# Altium integrated library Transistor.IntLib: 3457 symbols (part 28 of 78)
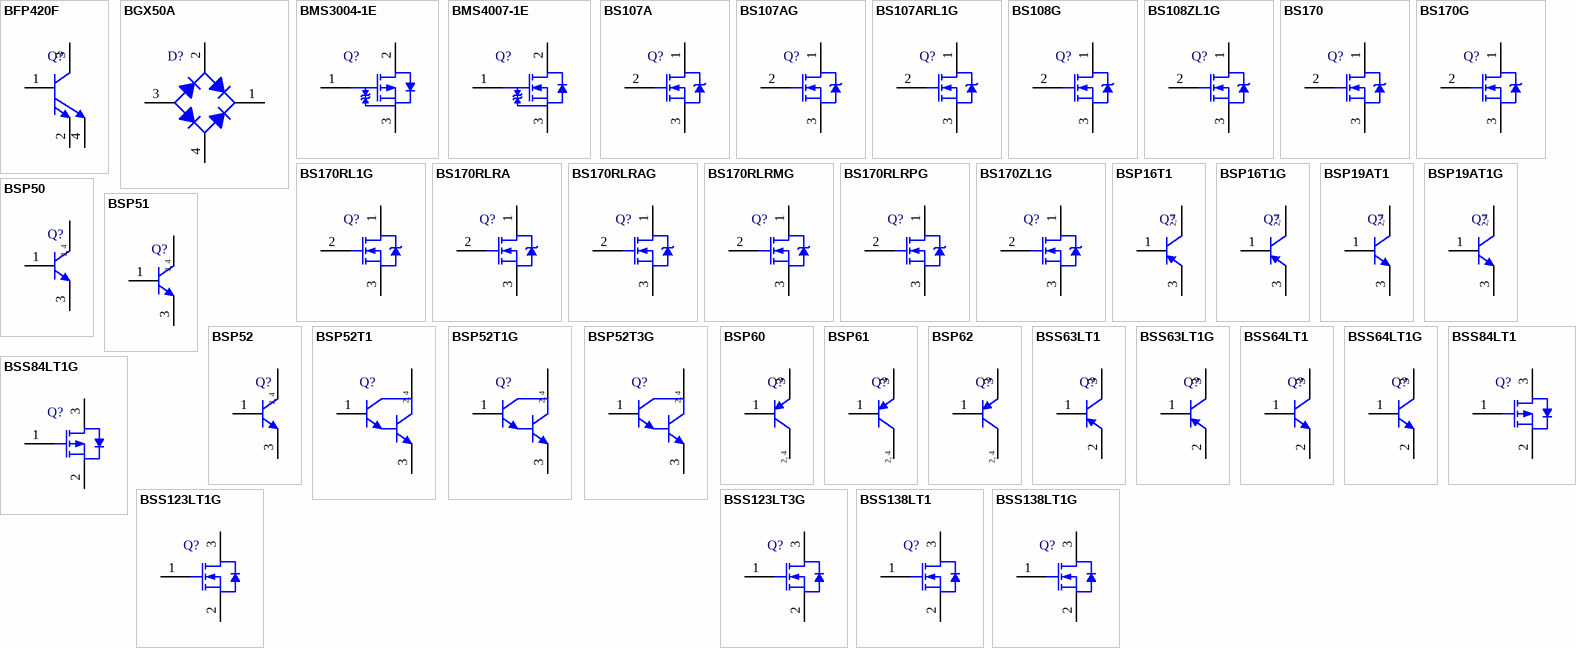
[diagram p121: symbols BFP420F to BSS138LT1G]

## BSP52T1G
designator Q?
NPN Small-Signal Darlington Transistor, 4-Pin SOT-223, Pb-Free, Tape and Reel; Manufacturer: On Semiconductor; PartNumber: BSP52T1G; IC Continuous (A): 1; DatasheetVersion: Rev. 8; PackageVersion: Rev. N, 08/2009; PackageReference: SOT-223-4-318E-04; PackageDescription: 4-Pin Small Outline Transistor, Body 6.5 x 3.5 mm, Pitch 2.3 mm; Supplier 1: Digi-Key; Supplier Part Number 1: BSP52T1GOSTR-ND; Supplier 2: Digi-Key; Supplier Part Number 2: BSP52T1GOSCT-ND; Supplier 3: Digi-Key; Supplier Part Number 3: BSP52T1GOSDKR-ND; Supplier 4: Farnell; Supplier Part Number 4: 2317846; Supplier 5: Farnell; Supplier Part Number 5: 2317579; Supplier 6: Newark; Supplier Part Number 6: 85W3128; Supplier 7: Newark; Supplier Part Number 7: 45J0623; Supplier 8: Mouser; Supplier Part Number 8: 863-BSP52T1G; Packing: Tape and Reel; Polarity: NPN; RoHS: TRUE; Mounting Technology: Surface Mount; ComponentLink1Description: Manufacturer URL; ComponentLink1URL: http://www.onsemi.com/; ComponentLink2Description: Datasheet; ComponentLink2URL: http://www.onsemi.com/pub_link/Collateral/BSP52T1-D.PDF; ComponentLink3Description: Package Specification; ComponentLink3URL: http://www.onsemi.com/pub_link/Collateral/318E-04.PDF
footprint ONSC-SOT-223-4-318E-04_V (SOT223, 4-Leads, Body 6.5x3.5mm, Pitch 2.3mm)
pins: 1 B, 2 C, 3 E, 4 C
text: 2, 4

## BSP52T3G
designator Q?
NPN Small-Signal Darlington Transistor, 4-Pin SOT-223, Pb-Free, Tape and Reel; Manufacturer: On Semiconductor; PartNumber: BSP52T3G; IC Continuous (A): 1; DatasheetVersion: Rev. 8; PackageVersion: Rev. N, 08/2009; PackageReference: SOT-223-4-318E-04; PackageDescription: 4-Pin Small Outline Transistor, Body 6.5 x 3.5 mm, Pitch 2.3 mm; Supplier 1: Digi-Key; Supplier Part Number 1: BSP52T3GOSTR-ND; Supplier 2: Digi-Key; Supplier Part Number 2: BSP52T3GOSCT-ND; Supplier 3: Digi-Key; Supplier Part Number 3: BSP52T3GOSDKR-ND; Supplier 4: Farnell; Supplier Part Number 4: 1887073; Supplier 5: Newark; Supplier Part Number 5: 09R9391; Supplier 6: Mouser; Supplier Part Number 6: 863-BSP52T3G; Packing: Tape and Reel; Polarity: NPN; RoHS: TRUE; Mounting Technology: Surface Mount; ComponentLink1Description: Manufacturer URL; ComponentLink1URL: http://www.onsemi.com/; ComponentLink2Description: Datasheet; ComponentLink2URL: http://www.onsemi.com/pub_link/Collateral/BSP52T1-D.PDF; ComponentLink3Description: Package Specification; ComponentLink3URL: http://www.onsemi.com/pub_link/Collateral/318E-04.PDF
footprint ONSC-SOT-223-4-318E-04_V (SOT223, 4-Leads, Body 6.5x3.5mm, Pitch 2.3mm)
pins: 1 B, 2 C, 3 E, 4 C
text: 2, 4

## BSP60
designator Q?
PNP Silicon Darlington Transistor, 45 V VCEO, 1000 mA IC, SOT223, Reel, Green; Manufacturer: Infineon; PartNumber: BSP60; fT (typ): 200 MHz; Green: TRUE; hFE (min): 1000; IC: 500 mA; IC (max): 1,000 mA; ICM (max): 2,000 mA; VCBO (max): 60 V; VCE: 10 V; VCEO (max): 45 V; VEBO (max): 5 V; PackageVersion: Apr-08; PackageReference: SOT223 (SC-73); PackageDescription: 4-Pin Small Outline Transistor Package, 6.5 x 3.5 mm Body, 2.3 mm Pitch; Packing: Reel; Polarity: PNP; Mounting Technology: Surface Mount; ComponentLink1Description: Manufacturer URL; ComponentLink1URL: http://www.infineon.com/; ComponentLink2Description: Datasheet; ComponentLink2URL: http://www.infineon.com/dgdl/bsp60_bsp61_bsp62.pdf?folderId=db3a30431441fb5d011445c30f210183&fileId=db3a30431441fb5d011445e1c2e7018a; ComponentLink3Description: Package Specification; ComponentLink3URL: http://www.infineon.com/dgdl/SOT223-Package_Overview.pdf?folderId=db3a30431936bc4b0119530470b03c3d&fileId=db3a30431936bc4b0119531d40b93c5c
footprint INF-SOT223_SC-73_N (SOT223, 4-Leads, Body 6.5x3.5mm, Pitch 2.3mm, IPC Medium Density)
footprint INF-SOT223_SC-73_L (SOT223, 4-Leads, Body 6.5x3.5mm, Pitch 2.3mm, IPC High Density)
footprint INF-SOT223_SC-73_M (SOT223, 4-Leads, Body 6.5x3.5mm, Pitch 2.3mm, IPC Low Density)
pins: 1 B, 2 C, 3 E, 4 C
text: 2, 4

## BSP61
designator Q?
PNP Silicon Darlington Transistor, 60 V VCEO, 1000 mA IC, SOT223, Reel, Green; Manufacturer: Infineon; PartNumber: BSP61; fT (typ): 200 MHz; Green: TRUE; hFE (min): 1000; IC: 500 mA; IC (max): 1,000 mA; ICM (max): 2,000 mA; VCBO (max): 80 V; VCE: 10 V; VCEO (max): 60 V; VEBO (max): 5 V; PackageVersion: Apr-08; PackageReference: SOT223 (SC-73); PackageDescription: 4-Pin Small Outline Transistor Package, 6.5 x 3.5 mm Body, 2.3 mm Pitch; Packing: Reel; Polarity: PNP; Mounting Technology: Surface Mount; ComponentLink1Description: Manufacturer URL; ComponentLink1URL: http://www.infineon.com/; ComponentLink2Description: Datasheet; ComponentLink2URL: http://www.infineon.com/dgdl/bsp60_bsp61_bsp62.pdf?folderId=db3a30431441fb5d011445c30f210183&fileId=db3a30431441fb5d011445e1c2e7018a; ComponentLink3Description: Package Specification; ComponentLink3URL: http://www.infineon.com/dgdl/SOT223-Package_Overview.pdf?folderId=db3a30431936bc4b0119530470b03c3d&fileId=db3a30431936bc4b0119531d40b93c5c
footprint INF-SOT223_SC-73_N (SOT223, 4-Leads, Body 6.5x3.5mm, Pitch 2.3mm, IPC Medium Density)
footprint INF-SOT223_SC-73_L (SOT223, 4-Leads, Body 6.5x3.5mm, Pitch 2.3mm, IPC High Density)
footprint INF-SOT223_SC-73_M (SOT223, 4-Leads, Body 6.5x3.5mm, Pitch 2.3mm, IPC Low Density)
pins: 1 B, 2 C, 3 E, 4 C
text: 2, 4

## BSP62
designator Q?
PNP Silicon Darlington Transistor, 80 V VCEO, 1000 mA IC, SOT223, Reel, Green; Manufacturer: Infineon; PartNumber: BSP62; fT (typ): 200 MHz; Green: TRUE; hFE (min): 1000; IC: 500 mA; IC (max): 1,000 mA; ICM (max): 2,000 mA; VCBO (max): 90 V; VCE: 10 V; VCEO (max): 80 V; VEBO (max): 5 V; PackageVersion: Apr-08; PackageReference: SOT223 (SC-73); PackageDescription: 4-Pin Small Outline Transistor Package, 6.5 x 3.5 mm Body, 2.3 mm Pitch; Packing: Reel; Polarity: PNP; Mounting Technology: Surface Mount; ComponentLink1Description: Manufacturer URL; ComponentLink1URL: http://www.infineon.com/; ComponentLink2Description: Datasheet; ComponentLink2URL: http://www.infineon.com/dgdl/bsp60_bsp61_bsp62.pdf?folderId=db3a30431441fb5d011445c30f210183&fileId=db3a30431441fb5d011445e1c2e7018a; ComponentLink3Description: Package Specification; ComponentLink3URL: http://www.infineon.com/dgdl/SOT223-Package_Overview.pdf?folderId=db3a30431936bc4b0119530470b03c3d&fileId=db3a30431936bc4b0119531d40b93c5c
footprint INF-SOT223_SC-73_N (SOT223, 4-Leads, Body 6.5x3.5mm, Pitch 2.3mm, IPC Medium Density)
footprint INF-SOT223_SC-73_L (SOT223, 4-Leads, Body 6.5x3.5mm, Pitch 2.3mm, IPC High Density)
footprint INF-SOT223_SC-73_M (SOT223, 4-Leads, Body 6.5x3.5mm, Pitch 2.3mm, IPC Low Density)
pins: 1 B, 2 C, 3 E, 4 C
text: 2, 4

## BSS63LT1
designator Q?
High Voltage Transistor, PNP Silicon, 3-Pin SOT-23, Tape and Reel; Manufacturer: On Semiconductor; PartNumber: BSS63LT1; Note: 0; fT Min (MHz): 50; IC Continuous (A): -0.1; DatasheetVersion: Rev. 6; PackageVersion: Rev. AP, 11/2009; PackageReference: SOT-23-3-318-08; PackageDescription: 3-Pin Small Outline Transistor, Body 2.92 x 1.3 mm, Pitch 0.95 mm; Packing: Tape and Reel; Polarity: PNP; RoHS: FALSE; Mounting Technology: Surface Mount; ComponentLink1Description: Manufacturer URL; ComponentLink1URL: http://www.onsemi.com/; ComponentLink2Description: Datasheet; ComponentLink2URL: http://www.onsemi.com/pub_link/Collateral/BSS63LT1-D.PDF; ComponentLink3Description: Package Specification; ComponentLink3URL: http://www.onsemi.cn/pub_link/Collateral/318-08.PDF
footprint ONSC-SOT-23-3-318-08_V (SOT23, 3-Leads, Body 2.92x1.3mm, Pitch 0.95mm)
pins: 1 B, 2 E, 3 C

## BSS63LT1G
designator Q?
High Voltage Transistor, PNP Silicon, 3-Pin SOT-23, Pb-Free, Tape and Reel; Manufacturer: On Semiconductor; PartNumber: BSS63LT1G; fT Min (MHz): 50; IC Continuous (A): -0.1; DatasheetVersion: Rev. 6; PackageVersion: Rev. AP, 11/2009; PackageReference: SOT-23-3-318-08; PackageDescription: 3-Pin Small Outline Transistor, Body 2.92 x 1.3 mm, Pitch 0.95 mm; Supplier 1: Digi-Key; Supplier Part Number 1: BSS63LT1GOSTR-ND; Supplier 2: Digi-Key; Supplier Part Number 2: BSS63LT1GOSCT-ND; Supplier 3: Digi-Key; Supplier Part Number 3: BSS63LT1GOSDKR-ND; Supplier 4: Farnell; Supplier Part Number 4: 2317592; Supplier 5: Farnell; Supplier Part Number 5: 2317860; Supplier 6: Newark; Supplier Part Number 6: 09R9393; Supplier 7: Newark; Supplier Part Number 7: 26K3538; Supplier 8: Mouser; Supplier Part Number 8: 863-BSS63LT1G; Packing: Tape and Reel; Polarity: PNP; RoHS: TRUE; Mounting Technology: Surface Mount; ComponentLink1Description: Manufacturer URL; ComponentLink1URL: http://www.onsemi.com/; ComponentLink2Description: Datasheet; ComponentLink2URL: http://www.onsemi.com/pub_link/Collateral/BSS63LT1-D.PDF; ComponentLink3Description: Package Specification; ComponentLink3URL: http://www.onsemi.cn/pub_link/Collateral/318-08.PDF
footprint ONSC-SOT-23-3-318-08_V (SOT23, 3-Leads, Body 2.92x1.3mm, Pitch 0.95mm)
pins: 1 B, 2 E, 3 C

## BSS64LT1
designator Q?
Driver Transistor, NPN Silicon, 3-Pin SOT-23, Tape and Reel; Manufacturer: On Semiconductor; PartNumber: BSS64LT1; fT Min (MHz): 60; IC Continuous (A): 0.1; DatasheetVersion: Rev. 5; PackageVersion: Rev. AP, 11/2009; PackageReference: SOT-23-3-318-08; PackageDescription: 3-Pin Small Outline Transistor, Body 2.92 x 1.3 mm, Pitch 0.95 mm; Supplier 1: Digi-Key; Supplier Part Number 1: BSS64LT1-ND; Packing: Tape and Reel; Polarity: NPN; RoHS: FALSE; Mounting Technology: Surface Mount; ComponentLink1Description: Manufacturer URL; ComponentLink1URL: http://www.onsemi.com/; ComponentLink2Description: Datasheet; ComponentLink2URL: http://www.onsemi.com/pub_link/Collateral/BSS64LT1-D.PDF; ComponentLink3Description: Package Specification; ComponentLink3URL: http://www.onsemi.cn/pub_link/Collateral/318-08.PDF
footprint ONSC-SOT-23-3-318-08_V (SOT23, 3-Leads, Body 2.92x1.3mm, Pitch 0.95mm)
pins: 1 B, 2 E, 3 C

## BSS64LT1G
designator Q?
Driver Transistor, NPN Silicon, 3-Pin SOT-23, Pb-Free, Tape and Reel; Manufacturer: On Semiconductor; PartNumber: BSS64LT1G; fT Min (MHz): 60; IC Continuous (A): 0.1; DatasheetVersion: Rev. 5; PackageVersion: Rev. AP, 11/2009; PackageReference: SOT-23-3-318-08; PackageDescription: 3-Pin Small Outline Transistor, Body 2.92 x 1.3 mm, Pitch 0.95 mm; Supplier 1: Digi-Key; Supplier Part Number 1: BSS64LT1GOSTR-ND; Supplier 2: Digi-Key; Supplier Part Number 2: BSS64LT1GOSCT-ND; Supplier 3: Digi-Key; Supplier Part Number 3: BSS64LT1GOSDKR-ND; Supplier 4: Newark; Supplier Part Number 4: 26K3539; Supplier 5: Mouser; Supplier Part Number 5: 863-BSS64LT1G; Packing: Tape and Reel; Polarity: NPN; RoHS: TRUE; Mounting Technology: Surface Mount; ComponentLink1Description: Manufacturer URL; ComponentLink1URL: http://www.onsemi.com/; ComponentLink2Description: Datasheet; ComponentLink2URL: http://www.onsemi.com/pub_link/Collateral/BSS64LT1-D.PDF; ComponentLink3Description: Package Specification; ComponentLink3URL: http://www.onsemi.cn/pub_link/Collateral/318-08.PDF
footprint ONSC-SOT-23-3-318-08_V (SOT23, 3-Leads, Body 2.92x1.3mm, Pitch 0.95mm)
pins: 1 B, 2 E, 3 C

## BSS84LT1
designator Q?
Power MOSFET Single P-Channel, -50 V, 10 Ohm, 3-Pin SOT-23, Tape and Reel; Manufacturer: On Semiconductor; PartNumber: BSS84LT1; Channel Polarity: P Channel; Ciss Typ (pF): 36; Coss Typ (pF): 17; Crss Typ (pF): 6.5; ID Max (A): 0.13; PD Max (W): 0.225; V(BR)DSS Min (V): 50; VGS Max (V): 20; VGS(th) Max (V): 2; DatasheetVersion: Rev. 8; PackageVersion: Rev. AP, 11/2009; PackageReference: SOT-23-3-318-08; PackageDescription: 3-Pin Small Outline Transistor, Body 2.92 x 1.3 mm, Pitch 0.95 mm; Supplier 1: Digi-Key; Supplier Part Number 1: BSS84LT1OSCT-ND; Supplier 2: Digi-Key; Supplier Part Number 2: BSS84LT1OSDKR-ND; Configuration: Single; Package Type: SOT-23-3; Packing: Tape and Reel; Mounting Technology: Surface Mount; ComponentLink1Description: Manufacturer URL; ComponentLink1URL: http://www.onsemi.com/; ComponentLink2Description: Datasheet; ComponentLink2URL: http://www.onsemi.com/pub_link/Collateral/BSS84LT1-D.PDF; ComponentLink3Description: Package Specification; ComponentLink3URL: http://www.onsemi.cn/pub_link/Collateral/318-08.PDF
footprint ONSC-SOT-23-3-318-08_V (SOT23, 3-Leads, Body 2.92x1.3mm, Pitch 0.95mm)
pins: 1 G, 2 S, 3 D

## BSS84LT1G
designator Q?
Power MOSFET Single P-Channel, -50 V, 10 Ohm, 3-Pin SOT-23, Pb-Free, Tape and Reel; Manufacturer: On Semiconductor; PartNumber: BSS84LT1G; Channel Polarity: P Channel; Ciss Typ (pF): 36; Coss Typ (pF): 17; Crss Typ (pF): 6.5; ID Max (A): 0.13; PD Max (W): 0.225; V(BR)DSS Min (V): 50; VGS Max (V): 20; VGS(th) Max (V): 2; DatasheetVersion: Rev. 8; PackageVersion: Rev. AP, 11/2009; PackageReference: SOT-23-3-318-08; PackageDescription: 3-Pin Small Outline Transistor, Body 2.92 x 1.3 mm, Pitch 0.95 mm; Supplier 1: Digi-Key; Supplier Part Number 1: BSS84LT1GOSTR-ND; Supplier 2: Digi-Key; Supplier Part Number 2: BSS84LT1GOSCT-ND; Supplier 3: Digi-Key; Supplier Part Number 3: BSS84LT1GOSDKR-ND; Supplier 4: Farnell; Supplier Part Number 4: 1431318; Supplier 5: Farnell; Supplier Part Number 5: 1431318RL; Supplier 6: Newark; Supplier Part Number 6: 98H0511; Supplier 7: Newark; Supplier Part Number 7: 35P2751; Supplier 8: Mouser; Supplier Part Number 8: 863-BSS84LT1G; Configuration: Single; Package Type: SOT-23-3; Packing: Tape and Reel; RoHS: Pb-Free; Mounting Technology: Surface Mount; ComponentLink1Description: Manufacturer URL; ComponentLink1URL: http://www.onsemi.com/; ComponentLink2Description: Datasheet; ComponentLink2URL: http://www.onsemi.com/pub_link/Collateral/BSS84LT1-D.PDF; ComponentLink3Description: Package Specification; ComponentLink3URL: http://www.onsemi.cn/pub_link/Collateral/318-08.PDF
footprint ONSC-SOT-23-3-318-08_V (SOT23, 3-Leads, Body 2.92x1.3mm, Pitch 0.95mm)
pins: 1 G, 2 S, 3 D

## BSS123LT1G
designator Q?
Power MOSFET, 170 mA, 100 V, N-Channel, 3-Pin SOT-23, Pb-Free, Tape and Reel; Manufacturer: On Semiconductor; PartNumber: BSS123LT1G; Channel Polarity: N Channel; Ciss Typ (pF): 20; Configuration: Single; Coss Typ (pF): 9; Crss Typ (pF): 4; ID Max (A): 0.17; PD Max (W): 0.225; V(BR)DSS Min (V): 100; VGS(th) Max (V): 2.6; DatasheetVersion: Rev. 8; PackageVersion: Rev. AP, 11/2009; PackageReference: SOT-23-3-318-08; PackageDescription: 3-Pin Small Outline Transistor, Body 2.92 x 1.3 mm, Pitch 0.95 mm; Supplier 1: Digi-Key; Supplier Part Number 1: BSS123LT1GOSTR-ND; Supplier 2: Digi-Key; Supplier Part Number 2: BSS123LT1GOSCT-ND; Supplier 3: Digi-Key; Supplier Part Number 3: BSS123LT1GOSDKR-ND; Supplier 4: Farnell; Supplier Part Number 4: 2317884; Supplier 5: Farnell; Supplier Part Number 5: 9558640RL; Supplier 6: Farnell; Supplier Part Number 6: 9558640; Supplier 7: Newark; Supplier Part Number 7: 83H6428; Supplier 8: Newark; Supplier Part Number 8: 85W3129; Supplier 9: Mouser; Supplier Part Number 9: 863-BSS123LT1G; Package Type: SOT-23-3; Packing: Tape and Reel; RoHS: Pb-Free; VGS Max (V): 20; Mounting Technology: Surface Mount; ComponentLink1Description: Manufacturer URL; ComponentLink1URL: http://www.onsemi.com/; ComponentLink2Description: Datasheet; ComponentLink2URL: http://www.onsemi.com/pub_link/Collateral/BSS123LT1-D.PDF; ComponentLink3Description: Package Specification; ComponentLink3URL: http://www.onsemi.cn/pub_link/Collateral/318-08.PDF
footprint ONSC-SOT-23-3-318-08_V (SOT23, 3-Leads, Body 2.92x1.3mm, Pitch 0.95mm)
pins: 1 G, 2 S, 3 D

## BSS123LT3G
designator Q?
Power MOSFET, 170 mA, 100 V, N-Channel, 3-Pin SOT-23, Pb-Free, Tape and Reel; Manufacturer: On Semiconductor; PartNumber: BSS123LT3G; Channel Polarity: N Channel; Ciss Typ (pF): 20; Configuration: Single; Coss Typ (pF): 9; Crss Typ (pF): 4; ID Max (A): 0.17; PD Max (W): 0.225; V(BR)DSS Min (V): 100; VGS(th) Max (V): 2.6; DatasheetVersion: Rev. 8; PackageVersion: Rev. AP, 11/2009; PackageReference: SOT-23-3-318-08; PackageDescription: 3-Pin Small Outline Transistor, Body 2.92 x 1.3 mm, Pitch 0.95 mm; Supplier 1: Digi-Key; Supplier Part Number 1: BSS123LT3G-ND; Supplier 2: Mouser; Supplier Part Number 2: 863-BSS123LT3G; Package Type: SOT-23-3; Packing: Tape and Reel; RoHS: Pb-Free; VGS Max (V): 20; Mounting Technology: Surface Mount; ComponentLink1Description: Manufacturer URL; ComponentLink1URL: http://www.onsemi.com/; ComponentLink2Description: Datasheet; ComponentLink2URL: http://www.onsemi.com/pub_link/Collateral/BSS123LT1-D.PDF; ComponentLink3Description: Package Specification; ComponentLink3URL: http://www.onsemi.cn/pub_link/Collateral/318-08.PDF
footprint ONSC-SOT-23-3-318-08_V (SOT23, 3-Leads, Body 2.92x1.3mm, Pitch 0.95mm)
pins: 1 G, 2 S, 3 D

## BSS138LT1
designator Q?
Power MOSFET, 200 mA, 50 V, N-Channel, 3-Pin SOT-23, Tape and Reel; Manufacturer: On Semiconductor; PartNumber: BSS138LT1; Channel Polarity: N Channel; Ciss Typ (pF): 40; Configuration: Single; Coss Typ (pF): 12; Crss Typ (pF): 3.5; ID Max (A): 0.2; PD Max (W): 0.225; V(BR)DSS Min (V): 50; VGS Max (V): 20; VGS(th) Max (V): 1.5; DatasheetVersion: Rev. 8; PackageVersion: Rev. AP, 11/2009; PackageReference: SOT-23-3-318-08; PackageDescription: 3-Pin Small Outline Transistor, Body 2.92 x 1.3 mm, Pitch 0.95 mm; Supplier 1: Digi-Key; Supplier Part Number 1: BSS138LT1OSCT-ND; Package Type: SOT-23-3; Packing: Tape and Reel; Mounting Technology: Surface Mount; ComponentLink1Description: Manufacturer URL; ComponentLink1URL: http://www.onsemi.com/; ComponentLink2Description: Datasheet; ComponentLink2URL: http://www.onsemi.com/pub_link/Collateral/BSS138LT1-D.PDF; ComponentLink3Description: Package Specification; ComponentLink3URL: http://www.onsemi.cn/pub_link/Collateral/318-08.PDF
footprint ONSC-SOT-23-3-318-08_V (SOT23, 3-Leads, Body 2.92x1.3mm, Pitch 0.95mm)
pins: 1 G, 2 S, 3 D

## BSS138LT1G
designator Q?
Power MOSFET, 200 mA, 50 V, N-Channel, 3-Pin SOT-23, Pb-Free, Tape and Reel; Manufacturer: On Semiconductor; PartNumber: BSS138LT1G; Channel Polarity: N Channel; Ciss Typ (pF): 40; Configuration: Single; Coss Typ (pF): 12; Crss Typ (pF): 3.5; ID Max (A): 0.2; PD Max (W): 0.225; V(BR)DSS Min (V): 50; VGS Max (V): 20; VGS(th) Max (V): 1.5; DatasheetVersion: Rev. 8; PackageVersion: Rev. AP, 11/2009; PackageReference: SOT-23-3-318-08; PackageDescription: 3-Pin Small Outline Transistor, Body 2.92 x 1.3 mm, Pitch 0.95 mm; Supplier 1: Digi-Key; Supplier Part Number 1: BSS138LT1GOSTR-ND; Supplier 2: Digi-Key; Supplier Part Number 2: BSS138LT1GOSCT-ND; Supplier 3: Digi-Key; Supplier Part Number 3: BSS138LT1GOSDKR-ND; Supplier 4: Farnell; Supplier Part Number 4: 2317879; Supplier 5: Farnell; Supplier Part Number 5: 1431319RL; Supplier 6: Farnell; Supplier Part Number 6: 1431319; Supplier 7: Newark; Supplier Part Number 7: 83H6430; Supplier 8: Newark; Supplier Part Number 8: 67R1294; Supplier 9: Mouser; Supplier Part Number 9: 863-BSS138LT1G; Package Type: SOT-23-3; Packing: Tape and Reel; RoHS: Pb-Free; Mounting Technology: Surface Mount; ComponentLink1Description: Manufacturer URL; ComponentLink1URL: http://www.onsemi.com/; ComponentLink2Description: Datasheet; ComponentLink2URL: http://www.onsemi.com/pub_link/Collateral/BSS138LT1-D.PDF; ComponentLink3Description: Package Specification; ComponentLink3URL: http://www.onsemi.cn/pub_link/Collateral/318-08.PDF
footprint ONSC-SOT-23-3-318-08_V (SOT23, 3-Leads, Body 2.92x1.3mm, Pitch 0.95mm)
pins: 1 G, 2 S, 3 D

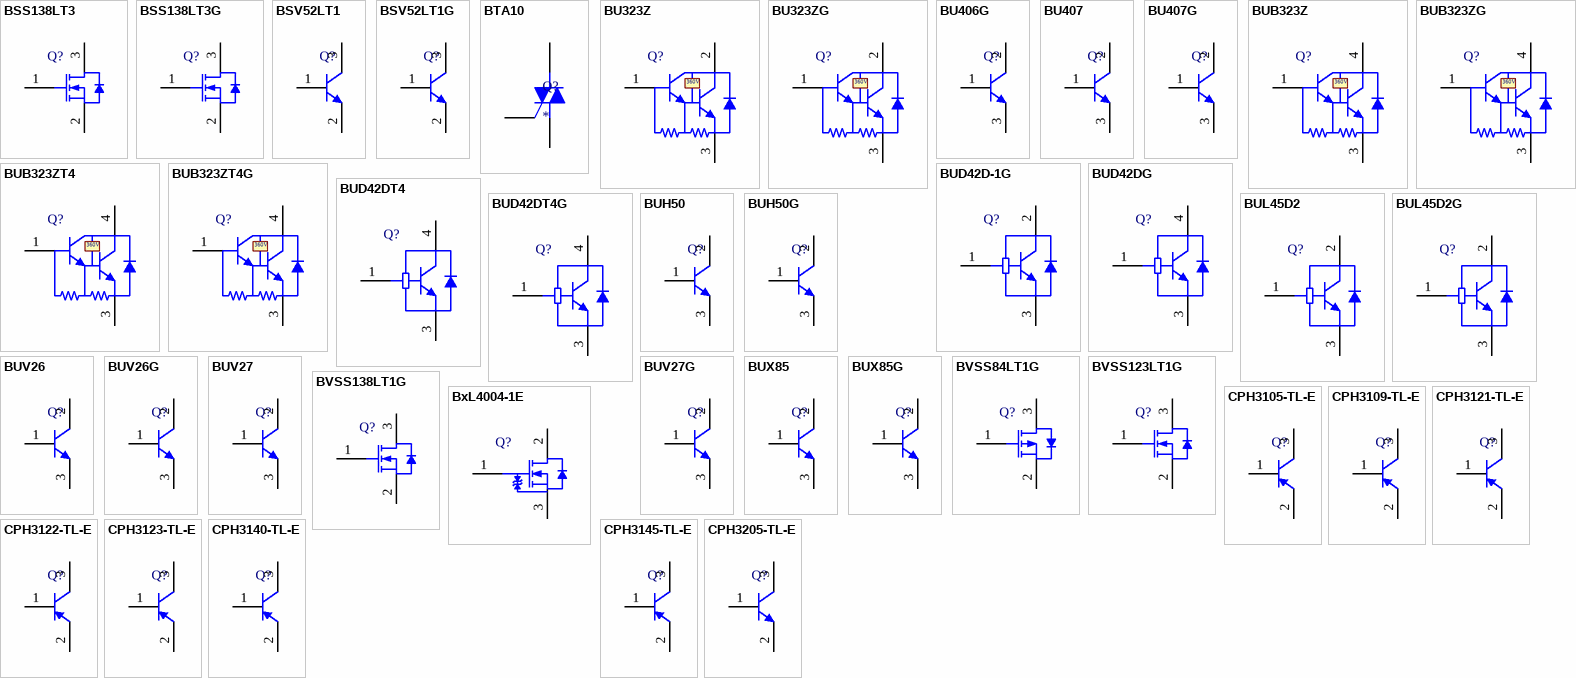
[diagram p32: symbols BSS138LT3 to CPH3205-TL-E]

## BSS138LT3
designator Q?
Power MOSFET, 200 mA, 50 V, N-Channel, 3-Pin SOT-23, Tape and Reel; Manufacturer: On Semiconductor; PartNumber: BSS138LT3; Channel Polarity: N Channel; Ciss Typ (pF): 40; Configuration: Single; Coss Typ (pF): 12; Crss Typ (pF): 3.5; ID Max (A): 0.2; PD Max (W): 0.225; V(BR)DSS Min (V): 50; VGS Max (V): 20; VGS(th) Max (V): 1.5; DatasheetVersion: Rev. 8; PackageVersion: Rev. AP, 11/2009; PackageReference: SOT-23-3-318-08; PackageDescription: 3-Pin Small Outline Transistor, Body 2.92 x 1.3 mm, Pitch 0.95 mm; Supplier 1: Digi-Key; Supplier Part Number 1: BSS138LT3-ND; Package Type: SOT-23-3; Packing: Tape and Reel; Mounting Technology: Surface Mount; ComponentLink1Description: Manufacturer URL; ComponentLink1URL: http://www.onsemi.com/; ComponentLink2Description: Datasheet; ComponentLink2URL: http://www.onsemi.com/pub_link/Collateral/BSS138LT1-D.PDF; ComponentLink3Description: Package Specification; ComponentLink3URL: http://www.onsemi.cn/pub_link/Collateral/318-08.PDF
footprint ONSC-SOT-23-3-318-08_V (SOT23, 3-Leads, Body 2.92x1.3mm, Pitch 0.95mm)
pins: 1 G, 2 S, 3 D

## BSS138LT3G
designator Q?
Power MOSFET, 200 mA, 50 V, N-Channel, 3-Pin SOT-23, Pb-Free, Tape and Reel; Manufacturer: On Semiconductor; PartNumber: BSS138LT3G; Channel Polarity: N Channel; Ciss Typ (pF): 40; Configuration: Single; Coss Typ (pF): 12; Crss Typ (pF): 3.5; ID Max (A): 0.2; PD Max (W): 0.225; V(BR)DSS Min (V): 50; VGS Max (V): 20; VGS(th) Max (V): 1.5; DatasheetVersion: Rev. 8; PackageVersion: Rev. AP, 11/2009; PackageReference: SOT-23-3-318-08; PackageDescription: 3-Pin Small Outline Transistor, Body 2.92 x 1.3 mm, Pitch 0.95 mm; Supplier 1: Digi-Key; Supplier Part Number 1: BSS138LT3GOSTR-ND; Supplier 2: Digi-Key; Supplier Part Number 2: BSS138LT3GOSCT-ND; Supplier 3: Farnell; Supplier Part Number 3: 2101819; Supplier 4: Farnell; Supplier Part Number 4: 2369427; Supplier 5: Newark; Supplier Part Number 5: 45J0624; Supplier 6: Newark; Supplier Part Number 6: 09R9392; Supplier 7: Mouser; Supplier Part Number 7: 863-BSS138LT3G; Package Type: SOT-23-3; Packing: Tape and Reel; RoHS: Pb-Free; Mounting Technology: Surface Mount; ComponentLink1Description: Manufacturer URL; ComponentLink1URL: http://www.onsemi.com/; ComponentLink2Description: Datasheet; ComponentLink2URL: http://www.onsemi.com/pub_link/Collateral/BSS138LT1-D.PDF; ComponentLink3Description: Package Specification; ComponentLink3URL: http://www.onsemi.cn/pub_link/Collateral/318-08.PDF
footprint ONSC-SOT-23-3-318-08_V (SOT23, 3-Leads, Body 2.92x1.3mm, Pitch 0.95mm)
pins: 1 G, 2 S, 3 D

## BSV52LT1
designator Q?
Switching Transistor, NPN Silicon, 3-Pin SOT-23, Tape and Reel; Manufacturer: On Semiconductor; PartNumber: BSV52LT1; fT Min (MHz): 400; IC Continuous (A): 0.1; DatasheetVersion: Rev. 3; PackageVersion: Rev. AP, 11/2009; PackageReference: SOT-23-3-318-08; PackageDescription: 3-Pin Small Outline Transistor, Body 2.92 x 1.3 mm, Pitch 0.95 mm; Supplier 1: Digi-Key; Supplier Part Number 1: BSV52LT1-ND; Packing: Tape and Reel; Polarity: NPN; RoHS: FALSE; Mounting Technology: Surface Mount; ComponentLink1Description: Manufacturer URL; ComponentLink1URL: http://www.onsemi.com/; ComponentLink2Description: Datasheet; ComponentLink2URL: http://www.onsemi.com/pub_link/Collateral/BSV52LT1-D.PDF; ComponentLink3Description: Package Specification; ComponentLink3URL: http://www.onsemi.cn/pub_link/Collateral/318-08.PDF
footprint ONSC-SOT-23-3-318-08_V (SOT23, 3-Leads, Body 2.92x1.3mm, Pitch 0.95mm)
pins: 1 B, 2 E, 3 C

## BSV52LT1G
designator Q?
Switching Transistor, NPN Silicon, 3-Pin SOT-23, Pb-Free, Tape and Reel; Manufacturer: On Semiconductor; PartNumber: BSV52LT1G; fT Min (MHz): 400; IC Continuous (A): 0.1; DatasheetVersion: Rev. 3; PackageVersion: Rev. AP, 11/2009; PackageReference: SOT-23-3-318-08; PackageDescription: 3-Pin Small Outline Transistor, Body 2.92 x 1.3 mm, Pitch 0.95 mm; Supplier 1: Digi-Key; Supplier Part Number 1: BSV52LT1GOSTR-ND; Supplier 2: Digi-Key; Supplier Part Number 2: BSV52LT1GOSCT-ND; Supplier 3: Digi-Key; Supplier Part Number 3: BSV52LT1GOSDKR-ND; Supplier 4: Farnell; Supplier Part Number 4: 2317878; Supplier 5: Farnell; Supplier Part Number 5: 2317548; Supplier 6: Newark; Supplier Part Number 6: 41K9627; Supplier 7: Newark; Supplier Part Number 7: 85W3131; Supplier 8: Mouser; Supplier Part Number 8: 863-BSV52LT1G; Packing: Tape and Reel; Polarity: NPN; RoHS: TRUE; Mounting Technology: Surface Mount; ComponentLink1Description: Manufacturer URL; ComponentLink1URL: http://www.onsemi.com/; ComponentLink2Description: Datasheet; ComponentLink2URL: http://www.onsemi.com/pub_link/Collateral/BSV52LT1-D.PDF; ComponentLink3Description: Package Specification; ComponentLink3URL: http://www.onsemi.cn/pub_link/Collateral/318-08.PDF
footprint ONSC-SOT-23-3-318-08_V (SOT23, 3-Leads, Body 2.92x1.3mm, Pitch 0.95mm)
pins: 1 B, 2 E, 3 C

## BTA10
designator Q?
footprint DPAK244P1540X238-3N (D2-PAK, 3-Pads, Body 7.77x8.36mm (max), IPC Medium Density)
pins: G, M1, M2

## BU323Z
designator Q?
NPN Silicon Power Darlington, High Voltage Autoprotected, 3-Pin SOT-93, Tube; Manufacturer: On Semiconductor; PartNumber: BU323Z; hFE Max (k): 3.4; IC Continuous (A): 10; DatasheetVersion: Rev. 16; PackageVersion: Rev. E; PackageReference: SOT-93_TO-218-3-340D-02; PackageDescription: 3-Pin Flange Mount, Vertical Straight Lead, Body 14.95 x 4.8 mm, Pitch 5.475 mm; Supplier 1: Digi-Key; Supplier Part Number 1: BU323Z-ND; Packing: Tube; Polarity: NPN; RoHS: FALSE; Mounting Technology: Through Hole; ComponentLink1Description: Manufacturer URL; ComponentLink1URL: http://www.onsemi.com/; ComponentLink2Description: Datasheet; ComponentLink2URL: http://www.onsemi.com/pub_link/Collateral/BU323Z-D.PDF; ComponentLink3Description: Package Specification; ComponentLink3URL: http://www.onsemi.com/pub_link/Collateral/TIP33C-D.PDF
footprint ONSC-SOT-93_TO-218-3-340D-02 (FM, 3-Leads, Body 15.2x4.9mm, Pitch 5.475mm)
pins: 1 B, 2 C, 3 E
text: 360V

## BU323ZG
designator Q?
NPN Silicon Power Darlington, High Voltage Autoprotected, 3-Pin TO-247, Pb-Free, Tube; Manufacturer: On Semiconductor; PartNumber: BU323ZG; hFE Max (k): 3.4; IC Continuous (A): 10; DatasheetVersion: Rev. 16; PackageVersion: Rev. F, 10/2011; PackageReference: TO-247-3-340L-02; PackageDescription: 3-Pin Flange Mount, Vertical Straight Lead, Body 16.005 x 5 mm, Pitch 5.45 mm; Supplier 1: Digi-Key; Supplier Part Number 1: BU323ZGOS-ND; Supplier 2: Farnell; Supplier Part Number 2: 9555960; Supplier 3: Newark; Supplier Part Number 3: 26K3556; Supplier 4: Mouser; Supplier Part Number 4: 863-BU323ZG; Packing: Tube; Polarity: NPN; RoHS: TRUE; Mounting Technology: Through Hole; ComponentLink1Description: Manufacturer URL; ComponentLink1URL: http://www.onsemi.com/; ComponentLink2Description: Datasheet; ComponentLink2URL: http://www.onsemi.com/pub_link/Collateral/BU323Z-D.PDF; ComponentLink3Description: Package Specification; ComponentLink3URL: http://www.onsemi.cn/pub_link/Collateral/340L-02.PDF
footprint ONSC-TO-247-3-340L-02 (FM, 3-Leads, Body 16.3x5.3mm, Pitch 5.45mm)
pins: 1 B, 2 C, 3 E
text: 360V

## BU406G
designator Q?
NPN Power Transistor, 3-Pin TO-220, Pb-Free, Tube; Manufacturer: On Semiconductor; PartNumber: BU406G; fT Min (MHz): 10; IC Continuous (A): 7; DatasheetVersion: Rev. 10; PackageVersion: Rev. AG, 09/2011; PackageReference: TO-220-3-221A-09; PackageDescription: 3-Pin Flange Mount, Vertical Straight Lead, Body 9.97 x 4.445 mm, Pitch 2.54 mm; Supplier 1: Digi-Key; Supplier Part Number 1: BU406GOS-ND; Supplier 2: Newark; Supplier Part Number 2: 26K3557; Supplier 3: Mouser; Supplier Part Number 3: 863-BU406G; Packing: Tube; Polarity: NPN; RoHS: TRUE; Mounting Technology: Through Hole; ComponentLink1Description: Manufacturer URL; ComponentLink1URL: http://www.onsemi.com/; ComponentLink2Description: Datasheet; ComponentLink2URL: http://www.onsemi.com/pub_link/Collateral/BU406-D.PDF; ComponentLink3Description: Package Specification; ComponentLink3URL: http://www.onsemi.com/pub_link/Collateral/221A-09.PDF
footprint ONSC-TO-220-3-221A-09 (FM, 3-Leads, Body 10.3x4.85mm, Pitch 2.54mm)
pins: 1 B, 2 C, 3 E

## BU407
designator Q?
NPN Power Transistor, 3-Pin TO-220, Tube; Manufacturer: On Semiconductor; PartNumber: BU407; Note: 0; fT Min (MHz): 10; IC Continuous (A): 7; DatasheetVersion: Rev. 10; PackageVersion: Rev. AG, 09/2011; PackageReference: TO-220-3-221A-09; PackageDescription: 3-Pin Flange Mount, Vertical Straight Lead, Body 9.97 x 4.445 mm, Pitch 2.54 mm; Packing: Tube; Polarity: NPN; RoHS: FALSE; Mounting Technology: Through Hole; ComponentLink1Description: Manufacturer URL; ComponentLink1URL: http://www.onsemi.com/; ComponentLink2Description: Datasheet; ComponentLink2URL: http://www.onsemi.com/pub_link/Collateral/BU406-D.PDF; ComponentLink3Description: Package Specification; ComponentLink3URL: http://www.onsemi.com/pub_link/Collateral/221A-09.PDF
footprint ONSC-TO-220-3-221A-09 (FM, 3-Leads, Body 10.3x4.85mm, Pitch 2.54mm)
pins: 1 B, 2 C, 3 E

## BU407G
designator Q?
NPN Power Transistor, 3-Pin TO-220, Pb-Free, Tube; Manufacturer: On Semiconductor; PartNumber: BU407G; fT Min (MHz): 10; IC Continuous (A): 7; DatasheetVersion: Rev. 10; PackageVersion: Rev. AG, 09/2011; PackageReference: TO-220-3-221A-09; PackageDescription: 3-Pin Flange Mount, Vertical Straight Lead, Body 9.97 x 4.445 mm, Pitch 2.54 mm; Supplier 1: Mouser; Supplier Part Number 1: 863-BU407G; Packing: Tube; Polarity: NPN; RoHS: TRUE; Mounting Technology: Through Hole; ComponentLink1Description: Manufacturer URL; ComponentLink1URL: http://www.onsemi.com/; ComponentLink2Description: Datasheet; ComponentLink2URL: http://www.onsemi.com/pub_link/Collateral/BU406-D.PDF; ComponentLink3Description: Package Specification; ComponentLink3URL: http://www.onsemi.com/pub_link/Collateral/221A-09.PDF
footprint ONSC-TO-220-3-221A-09 (FM, 3-Leads, Body 10.3x4.85mm, Pitch 2.54mm)
pins: 1 B, 2 C, 3 E

## BUB323Z
designator Q?
NPN Silicon Power Darlington, High Voltage Autoprotected for Surface Mount, 3-Pin D2PAK, Tube; Manufacturer: On Semiconductor; PartNumber: BUB323Z; hFE Max (k): 3.4; IC Continuous (A): 10; DatasheetVersion: Rev. 1; PackageVersion: Rev. J, 08/2004; PackageReference: D2PAK-3-418B-04_J; PackageDescription: 3-Pin D2PAK, Body 9.145 x 9.97 mm, Pitch 2.54 mm; Supplier 1: Digi-Key; Supplier Part Number 1: BUB323Z-ND; Packing: Tube; Polarity: NPN; RoHS: FALSE; Mounting Technology: Surface Mount; ComponentLink1Description: Manufacturer URL; ComponentLink1URL: http://www.onsemi.com/; ComponentLink2Description: Datasheet; ComponentLink2URL: http://www.onsemi.com/pub_link/Collateral/BUB323Z-D.PDF; ComponentLink3Description: Package Specification; ComponentLink3URL: http://www.onsemi.com/pub_link/Collateral/BUB323Z-D.PDF
footprint ONSC-D2PAK-3-418B-04_J_V (FM, 3-Leads, Body 9.97x9.145mm, Pitch 2.54mm)
pins: 1 B, 3 E, 4 C
text: 360V

## BUB323ZG
designator Q?
NPN Silicon Power Darlington, High Voltage Autoprotected for Surface Mount, 3-Pin D2PAK, Pb-Free, Tube; Manufacturer: On Semiconductor; PartNumber: BUB323ZG; hFE Max (k): 3.4; IC Continuous (A): 10; DatasheetVersion: Rev. 1; PackageVersion: Rev. J, 08/2004; PackageReference: D2PAK-3-418B-04_J; PackageDescription: 3-Pin D2PAK, Body 9.145 x 9.97 mm, Pitch 2.54 mm; Supplier 1: Digi-Key; Supplier Part Number 1: BUB323ZG-ND; Supplier 2: Newark; Supplier Part Number 2: 41K9629; Supplier 3: Mouser; Supplier Part Number 3: 863-BUB323ZG; Packing: Tube; Polarity: NPN; RoHS: TRUE; Mounting Technology: Surface Mount; ComponentLink1Description: Manufacturer URL; ComponentLink1URL: http://www.onsemi.com/; ComponentLink2Description: Datasheet; ComponentLink2URL: http://www.onsemi.com/pub_link/Collateral/BUB323Z-D.PDF; ComponentLink3Description: Package Specification; ComponentLink3URL: http://www.onsemi.com/pub_link/Collateral/BUB323Z-D.PDF
footprint ONSC-D2PAK-3-418B-04_J_V (FM, 3-Leads, Body 9.97x9.145mm, Pitch 2.54mm)
pins: 1 B, 3 E, 4 C
text: 360V

## BUB323ZT4
designator Q?
NPN Silicon Power Darlington, High Voltage Autoprotected for Surface Mount, 3-Pin D2PAK, Tape and Reel; Manufacturer: On Semiconductor; PartNumber: BUB323ZT4; hFE Max (k): 3.4; IC Continuous (A): 10; DatasheetVersion: Rev. 1; PackageVersion: Rev. J, 08/2004; PackageReference: D2PAK-3-418B-04_J; PackageDescription: 3-Pin D2PAK, Body 9.145 x 9.97 mm, Pitch 2.54 mm; Supplier 1: Digi-Key; Supplier Part Number 1: BUB323ZT4OS-ND; Packing: Tape and Reel; Polarity: NPN; RoHS: FALSE; Mounting Technology: Surface Mount; ComponentLink1Description: Manufacturer URL; ComponentLink1URL: http://www.onsemi.com/; ComponentLink2Description: Datasheet; ComponentLink2URL: http://www.onsemi.com/pub_link/Collateral/BUB323Z-D.PDF; ComponentLink3Description: Package Specification; ComponentLink3URL: http://www.onsemi.com/pub_link/Collateral/BUB323Z-D.PDF
footprint ONSC-D2PAK-3-418B-04_J_V (FM, 3-Leads, Body 9.97x9.145mm, Pitch 2.54mm)
pins: 1 B, 3 E, 4 C
text: 360V

## BUB323ZT4G
designator Q?
NPN Silicon Power Darlington, High Voltage Autoprotected for Surface Mount, 3-Pin D2PAK, Pb-Free, Tape and Reel; Manufacturer: On Semiconductor; PartNumber: BUB323ZT4G; hFE Max (k): 3.4; IC Continuous (A): 10; DatasheetVersion: Rev. 1; PackageVersion: Rev. J, 08/2004; PackageReference: D2PAK-3-418B-04_J; PackageDescription: 3-Pin D2PAK, Body 9.145 x 9.97 mm, Pitch 2.54 mm; Supplier 1: Digi-Key; Supplier Part Number 1: BUB323ZT4GOSTR-ND; Supplier 2: Digi-Key; Supplier Part Number 2: BUB323ZT4GOSCT-ND; Supplier 3: Digi-Key; Supplier Part Number 3: BUB323ZT4GOSDKR-ND; Supplier 4: Farnell; Supplier Part Number 4: 1653614; Supplier 5: Farnell; Supplier Part Number 5: 1653614RL; Supplier 6: Newark; Supplier Part Number 6: 41K9630; Supplier 7: Mouser; Supplier Part Number 7: 863-BUB323ZT4G; Packing: Tape and Reel; Polarity: NPN; RoHS: TRUE; Mounting Technology: Surface Mount; ComponentLink1Description: Manufacturer URL; ComponentLink1URL: http://www.onsemi.com/; ComponentLink2Description: Datasheet; ComponentLink2URL: http://www.onsemi.com/pub_link/Collateral/BUB323Z-D.PDF; ComponentLink3Description: Package Specification; ComponentLink3URL: http://www.onsemi.com/pub_link/Collateral/BUB323Z-D.PDF
footprint ONSC-D2PAK-3-418B-04_J_V (FM, 3-Leads, Body 9.97x9.145mm, Pitch 2.54mm)
pins: 1 B, 3 E, 4 C
text: 360V

## BUD42D-1G
designator Q?
High Speed, High Gain Bipolar NPN Transistor with Antisaturation Network and Transient Voltage Suppression Capability, 3-Pin IPAK, Pb-Free, Tube; Manufacturer: On Semiconductor; PartNumber: BUD42D-1G; IC Continuous (A): 4; DatasheetVersion: Rev. 6; PackageVersion: Rev. C, 12/2010; PackageReference: IPAK-3-369D-01; PackageDescription: 3-Pin Flange Mount, Vertical Straight Lead, Body 6.54 x 2.285 mm, Pitch 2.29 mm; Supplier 1: Digi-Key; Supplier Part Number 1: BUD42D-1G-ND; Supplier 2: Mouser; Supplier Part Number 2: 863-BUD42D-1G; Packing: Tube; Polarity: NPN; RoHS: TRUE; Mounting Technology: Through Hole; Code_JEDEC: TO-251; ComponentLink1Description: Manufacturer URL; ComponentLink1URL: http://www.onsemi.com/; ComponentLink2Description: Datasheet; ComponentLink2URL: http://www.onsemi.com/pub_link/Collateral/BUD42D-D.PDF; ComponentLink3Description: Package Specification; ComponentLink3URL: http://www.onsemi.cn/pub_link/Collateral/369D.PDF
footprint ONSC-IPAK-3-369D-01 (FM, 3-Leads, Body 6.75x2.4mm, Pitch 2.29mm)
pins: 1 B, 2 C, 3 E

## BUD42DG
designator Q?
High Speed, High Gain Bipolar NPN Transistor with Antisaturation Network and Transient Voltage Suppression Capability, 3-Pin DPAK, Pb-Free, Tube; Manufacturer: On Semiconductor; PartNumber: BUD42DG; IC Continuous (A): 4; DatasheetVersion: Rev. 6; PackageVersion: Rev. E, 02/2014; PackageReference: DPAK-3-369C-01; PackageDescription: 3-Pin Flange Mount, Body 6.54 x 6.095 mm, Pitch 2.29 mm; Supplier 1: Digi-Key; Supplier Part Number 1: BUD42DG-ND; Supplier 2: Mouser; Supplier Part Number 2: 863-BUD42DG; Packing: Tube; Polarity: NPN; RoHS: TRUE; Mounting Technology: Surface Mount; ComponentLink1Description: Manufacturer URL; ComponentLink1URL: http://www.onsemi.com/; ComponentLink2Description: Datasheet; ComponentLink2URL: http://www.onsemi.com/pub_link/Collateral/BUD42D-D.PDF; ComponentLink3Description: Package Specification; ComponentLink3URL: http://www.onsemi.cn/pub_link/Collateral/369C.PDF
footprint ONSC-DPAK-3-369C-01_V (DPAK, 3-Leads, Body 6.54x6.095mm, Pitch 2.29mm)
pins: 1 B, 3 E, 4 C

## BUD42DT4
designator Q?
High Speed, High Gain Bipolar NPN Transistor with Antisaturation Network and Transient Voltage Suppression Capability, 3-Pin DPAK, Tape and Reel; Manufacturer: On Semiconductor; PartNumber: BUD42DT4; IC Continuous (A): 4; DatasheetVersion: Rev. 6; PackageVersion: Rev. E, 02/2014; PackageReference: DPAK-3-369C-01; PackageDescription: 3-Pin Flange Mount, Body 6.54 x 6.095 mm, Pitch 2.29 mm; Supplier 1: Digi-Key; Supplier Part Number 1: BUD42DT4OS-ND; Packing: Tape and Reel; Polarity: NPN; RoHS: FALSE; Mounting Technology: Surface Mount; ComponentLink1Description: Manufacturer URL; ComponentLink1URL: http://www.onsemi.com/; ComponentLink2Description: Datasheet; ComponentLink2URL: http://www.onsemi.com/pub_link/Collateral/BUD42D-D.PDF; ComponentLink3Description: Package Specification; ComponentLink3URL: http://www.onsemi.cn/pub_link/Collateral/369C.PDF
footprint ONSC-DPAK-3-369C-01_V (DPAK, 3-Leads, Body 6.54x6.095mm, Pitch 2.29mm)
pins: 1 B, 3 E, 4 C

## BUD42DT4G
designator Q?
High Speed, High Gain Bipolar NPN Transistor with Antisaturation Network and Transient Voltage Suppression Capability, 3-Pin DPAK, Pb-Free, Tape and Reel; Manufacturer: On Semiconductor; PartNumber: BUD42DT4G; IC Continuous (A): 4; DatasheetVersion: Rev. 6; PackageVersion: Rev. E, 02/2014; PackageReference: DPAK-3-369C-01; PackageDescription: 3-Pin Flange Mount, Body 6.54 x 6.095 mm, Pitch 2.29 mm; Supplier 1: Digi-Key; Supplier Part Number 1: BUD42DT4GOS-ND; Supplier 2: Mouser; Supplier Part Number 2: 863-BUD42DT4G; Packing: Tape and Reel; Polarity: NPN; RoHS: TRUE; Mounting Technology: Surface Mount; ComponentLink1Description: Manufacturer URL; ComponentLink1URL: http://www.onsemi.com/; ComponentLink2Description: Datasheet; ComponentLink2URL: http://www.onsemi.com/pub_link/Collateral/BUD42D-D.PDF; ComponentLink3Description: Package Specification; ComponentLink3URL: http://www.onsemi.cn/pub_link/Collateral/369C.PDF
footprint ONSC-DPAK-3-369C-01_V (DPAK, 3-Leads, Body 6.54x6.095mm, Pitch 2.29mm)
pins: 1 B, 3 E, 4 C

## BUH50
designator Q?
SWITCHMODE NPN Silicon Planar Power Transistor, 3-Pin TO-220, Tube; Manufacturer: On Semiconductor; PartNumber: BUH50; fT Min (MHz): 4; DatasheetVersion: Rev. 7; PackageVersion: Rev. AG, 09/2011; PackageReference: TO-220-3-221A-09; PackageDescription: 3-Pin Flange Mount, Vertical Straight Lead, Body 9.97 x 4.445 mm, Pitch 2.54 mm; Supplier 1: Digi-Key; Supplier Part Number 1: BUH50-ND; IC Continuous (A): 4; Packing: Tube; Polarity: NPN; RoHS: FALSE; Mounting Technology: Through Hole; ComponentLink1Description: Manufacturer URL; ComponentLink1URL: http://www.onsemi.com/; ComponentLink2Description: Datasheet; ComponentLink2URL: http://www.onsemi.com/pub_link/Collateral/BUH50-D.PDF; ComponentLink3Description: Package Specification; ComponentLink3URL: http://www.onsemi.com/pub_link/Collateral/221A-09.PDF
footprint ONSC-TO-220-3-221A-09 (FM, 3-Leads, Body 10.3x4.85mm, Pitch 2.54mm)
pins: 1 B, 2 C, 3 E

## BUH50G
designator Q?
SWITCHMODE NPN Silicon Planar Power Transistor, 3-Pin TO-220, Pb-Free, Tube; Manufacturer: On Semiconductor; PartNumber: BUH50G; fT Min (MHz): 4; DatasheetVersion: Rev. 7; PackageVersion: Rev. AG, 09/2011; PackageReference: TO-220-3-221A-09; PackageDescription: 3-Pin Flange Mount, Vertical Straight Lead, Body 9.97 x 4.445 mm, Pitch 2.54 mm; Supplier 1: Digi-Key; Supplier Part Number 1: BUH50GOS-ND; Supplier 2: Newark; Supplier Part Number 2: 26K3544; Supplier 3: Mouser; Supplier Part Number 3: 863-BUH50G; IC Continuous (A): 4; Packing: Tube; Polarity: NPN; RoHS: TRUE; Mounting Technology: Through Hole; ComponentLink1Description: Manufacturer URL; ComponentLink1URL: http://www.onsemi.com/; ComponentLink2Description: Datasheet; ComponentLink2URL: http://www.onsemi.com/pub_link/Collateral/BUH50-D.PDF; ComponentLink3Description: Package Specification; ComponentLink3URL: http://www.onsemi.com/pub_link/Collateral/221A-09.PDF
footprint ONSC-TO-220-3-221A-09 (FM, 3-Leads, Body 10.3x4.85mm, Pitch 2.54mm)
pins: 1 B, 2 C, 3 E

## BUL45D2
designator Q?
High Speed, High Gain Bipolar NPN Power Transistor, 3-Pin TO-220, Tube; Manufacturer: On Semiconductor; PartNumber: BUL45D2; IC Continuous (A): 5; DatasheetVersion: Rev. 7; PackageVersion: Rev. AG, 09/2011; PackageReference: TO-220-3-221A-09; PackageDescription: 3-Pin Flange Mount, Vertical Straight Lead, Body 9.97 x 4.445 mm, Pitch 2.54 mm; Supplier 1: Digi-Key; Supplier Part Number 1: BUL45D2OS-ND; Packing: Tube; Polarity: NPN; RoHS: FALSE; Mounting Technology: Through Hole; ComponentLink1Description: Manufacturer URL; ComponentLink1URL: http://www.onsemi.com/; ComponentLink2Description: Datasheet; ComponentLink2URL: http://www.onsemi.com/pub_link/Collateral/BUL45D2-D.PDF; ComponentLink3Description: Package Specification; ComponentLink3URL: http://www.onsemi.com/pub_link/Collateral/221A-09.PDF
footprint ONSC-TO-220-3-221A-09 (FM, 3-Leads, Body 10.3x4.85mm, Pitch 2.54mm)
pins: 1 B, 2 C, 3 E

## BUL45D2G
designator Q?
High Speed, High Gain Bipolar NPN Power Transistor, 3-Pin TO-220, Pb-Free, Tube; Manufacturer: On Semiconductor; PartNumber: BUL45D2G; IC Continuous (A): 5; DatasheetVersion: Rev. 7; PackageVersion: Rev. AG, 09/2011; PackageReference: TO-220-3-221A-09; PackageDescription: 3-Pin Flange Mount, Vertical Straight Lead, Body 9.97 x 4.445 mm, Pitch 2.54 mm; Supplier 1: Digi-Key; Supplier Part Number 1: BUL45D2GOS-ND; Supplier 2: Farnell; Supplier Part Number 2: 1354333; Supplier 3: Newark; Supplier Part Number 3: 26K3550; Supplier 4: Mouser; Supplier Part Number 4: 863-BUL45D2G; Packing: Tube; Polarity: NPN; RoHS: TRUE; Mounting Technology: Through Hole; ComponentLink1Description: Manufacturer URL; ComponentLink1URL: http://www.onsemi.com/; ComponentLink2Description: Datasheet; ComponentLink2URL: http://www.onsemi.com/pub_link/Collateral/BUL45D2-D.PDF; ComponentLink3Description: Package Specification; ComponentLink3URL: http://www.onsemi.com/pub_link/Collateral/221A-09.PDF
footprint ONSC-TO-220-3-221A-09 (FM, 3-Leads, Body 10.3x4.85mm, Pitch 2.54mm)
pins: 1 B, 2 C, 3 E

## BUV26
designator Q?
Switchmode Series NPN Silicon Power Transistor, 3-Pin TO-220, Tube; Manufacturer: On Semiconductor; PartNumber: BUV26; Note: 0; IC Continuous (A): 20; DatasheetVersion: Rev. 5; PackageVersion: Rev. AG, 09/2011; PackageReference: TO-220-3-221A-09; PackageDescription: 3-Pin Flange Mount, Vertical Straight Lead, Body 9.97 x 4.445 mm, Pitch 2.54 mm; Packing: Tube; Polarity: NPN; RoHS: FALSE; Mounting Technology: Through Hole; ComponentLink1Description: Manufacturer URL; ComponentLink1URL: http://www.onsemi.com/; ComponentLink2Description: Datasheet; ComponentLink2URL: http://www.onsemi.com/pub_link/Collateral/BUV26-D.PDF; ComponentLink3Description: Package Specification; ComponentLink3URL: http://www.onsemi.com/pub_link/Collateral/221A-09.PDF
footprint ONSC-TO-220-3-221A-09 (FM, 3-Leads, Body 10.3x4.85mm, Pitch 2.54mm)
pins: 1 B, 2 C, 3 E

## BUV26G
designator Q?
Switchmode Series NPN Silicon Power Transistor, 3-Pin TO-220, Pb-Free, Tube; Manufacturer: On Semiconductor; PartNumber: BUV26G; IC Continuous (A): 20; DatasheetVersion: Rev. 5; PackageVersion: Rev. AG, 09/2011; PackageReference: TO-220-3-221A-09; PackageDescription: 3-Pin Flange Mount, Vertical Straight Lead, Body 9.97 x 4.445 mm, Pitch 2.54 mm; Supplier 1: Digi-Key; Supplier Part Number 1: BUV26GOS-ND; Supplier 2: Farnell; Supplier Part Number 2: 2317573; Supplier 3: Newark; Supplier Part Number 3: 90W4321; Supplier 4: Newark; Supplier Part Number 4: 26K3554; Supplier 5: Mouser; Supplier Part Number 5: 863-BUV26G; Packing: Tube; Polarity: NPN; RoHS: TRUE; Mounting Technology: Through Hole; ComponentLink1Description: Manufacturer URL; ComponentLink1URL: http://www.onsemi.com/; ComponentLink2Description: Datasheet; ComponentLink2URL: http://www.onsemi.com/pub_link/Collateral/BUV26-D.PDF; ComponentLink3Description: Package Specification; ComponentLink3URL: http://www.onsemi.com/pub_link/Collateral/221A-09.PDF
footprint ONSC-TO-220-3-221A-09 (FM, 3-Leads, Body 10.3x4.85mm, Pitch 2.54mm)
pins: 1 B, 2 C, 3 E

## BUV27
designator Q?
NPN Silicon Power Transistor, 3-Pin TO-220, Tube; Manufacturer: On Semiconductor; PartNumber: BUV27; Note: 0; IC Continuous (A): 12; DatasheetVersion: Rev. 3; PackageVersion: Rev. AG, 09/2011; PackageReference: TO-220-3-221A-09; PackageDescription: 3-Pin Flange Mount, Vertical Straight Lead, Body 9.97 x 4.445 mm, Pitch 2.54 mm; Packing: Tube; Polarity: NPN; RoHS: FALSE; Mounting Technology: Through Hole; ComponentLink1Description: Manufacturer URL; ComponentLink1URL: http://www.onsemi.com/; ComponentLink2Description: Datasheet; ComponentLink2URL: http://www.onsemi.com/pub_link/Collateral/BUV27-D.PDF; ComponentLink3Description: Package Specification; ComponentLink3URL: http://www.onsemi.com/pub_link/Collateral/221A-09.PDF
footprint ONSC-TO-220-3-221A-09 (FM, 3-Leads, Body 10.3x4.85mm, Pitch 2.54mm)
pins: 1 B, 2 C, 3 E

## BUV27G
designator Q?
NPN Silicon Power Transistor, 3-Pin TO-220, Pb-Free, Tube; Manufacturer: On Semiconductor; PartNumber: BUV27G; IC Continuous (A): 12; DatasheetVersion: Rev. 3; PackageVersion: Rev. AG, 09/2011; PackageReference: TO-220-3-221A-09; PackageDescription: 3-Pin Flange Mount, Vertical Straight Lead, Body 9.97 x 4.445 mm, Pitch 2.54 mm; Supplier 1: Digi-Key; Supplier Part Number 1: BUV27G-ND; Supplier 2: Newark; Supplier Part Number 2: 26K3555; Supplier 3: Mouser; Supplier Part Number 3: 863-BUV27G; Packing: Tube; Polarity: NPN; RoHS: TRUE; Mounting Technology: Through Hole; ComponentLink1Description: Manufacturer URL; ComponentLink1URL: http://www.onsemi.com/; ComponentLink2Description: Datasheet; ComponentLink2URL: http://www.onsemi.com/pub_link/Collateral/BUV27-D.PDF; ComponentLink3Description: Package Specification; ComponentLink3URL: http://www.onsemi.com/pub_link/Collateral/221A-09.PDF
footprint ONSC-TO-220-3-221A-09 (FM, 3-Leads, Body 10.3x4.85mm, Pitch 2.54mm)
pins: 1 B, 2 C, 3 E

## BUX85
designator Q?
SWITCHMODE NPN Silicon Power Transistor, 3-Pin TO-220, Tube; Manufacturer: On Semiconductor; PartNumber: BUX85; fT Min (MHz): 4; IC Continuous (A): 2; DatasheetVersion: Rev. 16; PackageVersion: Rev. AG, 09/2011; PackageReference: TO-220-3-221A-09; PackageDescription: 3-Pin Flange Mount, Vertical Straight Lead, Body 9.97 x 4.445 mm, Pitch 2.54 mm; Supplier 1: Digi-Key; Supplier Part Number 1: BUX85OS-ND; Packing: Tube; Polarity: NPN; RoHS: FALSE; Mounting Technology: Through Hole; ComponentLink1Description: Manufacturer URL; ComponentLink1URL: http://www.onsemi.com/; ComponentLink2Description: Datasheet; ComponentLink2URL: http://www.onsemi.com/pub_link/Collateral/BUX85-D.PDF; ComponentLink3Description: Package Specification; ComponentLink3URL: http://www.onsemi.com/pub_link/Collateral/221A-09.PDF
footprint ONSC-TO-220-3-221A-09 (FM, 3-Leads, Body 10.3x4.85mm, Pitch 2.54mm)
pins: 1 B, 2 C, 3 E

## BUX85G
designator Q?
SWITCHMODE NPN Silicon Power Transistor, 3-Pin TO-220, Pb-Free, Tube; Manufacturer: On Semiconductor; PartNumber: BUX85G; fT Min (MHz): 4; IC Continuous (A): 2; DatasheetVersion: Rev. 16; PackageVersion: Rev. AG, 09/2011; PackageReference: TO-220-3-221A-09; PackageDescription: 3-Pin Flange Mount, Vertical Straight Lead, Body 9.97 x 4.445 mm, Pitch 2.54 mm; Supplier 1: Digi-Key; Supplier Part Number 1: BUX85GOS-ND; Supplier 2: Farnell; Supplier Part Number 2: 1703976; Supplier 3: Newark; Supplier Part Number 3: 41K9631; Supplier 4: Mouser; Supplier Part Number 4: 863-BUX85G; Packing: Tube; Polarity: NPN; RoHS: TRUE; Mounting Technology: Through Hole; ComponentLink1Description: Manufacturer URL; ComponentLink1URL: http://www.onsemi.com/; ComponentLink2Description: Datasheet; ComponentLink2URL: http://www.onsemi.com/pub_link/Collateral/BUX85-D.PDF; ComponentLink3Description: Package Specification; ComponentLink3URL: http://www.onsemi.com/pub_link/Collateral/221A-09.PDF
footprint ONSC-TO-220-3-221A-09 (FM, 3-Leads, Body 10.3x4.85mm, Pitch 2.54mm)
pins: 1 B, 2 C, 3 E

## BVSS84LT1G
designator Q?
Power MOSFET Single P-Channel, -50 V, 10 Ohm, 3-Pin SOT-23, Pb-Free, Tape and Reel; Manufacturer: On Semiconductor; PartNumber: BVSS84LT1G; Channel Polarity: P Channel; Ciss Typ (pF): 36; Coss Typ (pF): 17; Crss Typ (pF): 6.5; ID Max (A): 0.13; PD Max (W): 0.225; V(BR)DSS Min (V): 50; VGS Max (V): 20; VGS(th) Max (V): 2; DatasheetVersion: Rev. 8; PackageVersion: Rev. AP, 11/2009; PackageReference: SOT-23-3-318-08; PackageDescription: 3-Pin Small Outline Transistor, Body 2.92 x 1.3 mm, Pitch 0.95 mm; Supplier 1: Digi-Key; Supplier Part Number 1: BVSS84LT1G-ND; Supplier 2: Newark; Supplier Part Number 2: 76T5276; Supplier 3: Mouser; Supplier Part Number 3: 863-BVSS84LT1G; Configuration: Single; Package Type: SOT-23-3; Packing: Tape and Reel; RoHS: Pb-Free; Mounting Technology: Surface Mount; ComponentLink1Description: Manufacturer URL; ComponentLink1URL: http://www.onsemi.com/; ComponentLink2Description: Datasheet; ComponentLink2URL: http://www.onsemi.com/pub_link/Collateral/BSS84LT1-D.PDF; ComponentLink3Description: Package Specification; ComponentLink3URL: http://www.onsemi.cn/pub_link/Collateral/318-08.PDF
footprint ONSC-SOT-23-3-318-08_V (SOT23, 3-Leads, Body 2.92x1.3mm, Pitch 0.95mm)
pins: 1 G, 2 S, 3 D